# EAGLE library part MOLEX_CONN_20 (library BMS Temp CAN Board)
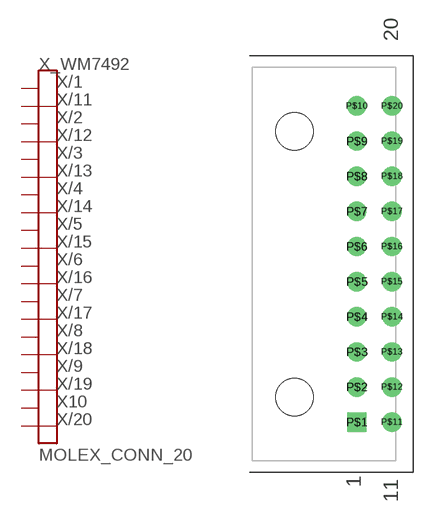
[diagram p0: symbol with the pads of WM7492; footprint WM7492]

Designator prefix X; gates _WM7492=WM7492 /1=CONN_PIN_SHORT /2=CONN_PIN_SHORT /3=CONN_PIN_SHORT /4=CONN_PIN_SHORT /5=CONN_PIN_SHORT /6=CONN_PIN_SHORT /7=CONN_PIN_SHORT /8=CONN_PIN_SHORT /9=CONN_PIN_SHORT 10=CONN_PIN_SHORT /11=CONN_PIN_LONG /12=CONN_PIN_LONG /13=CONN_PIN_LONG /14=CONN_PIN_LONG /15=CONN_PIN_LONG /16=CONN_PIN_LONG /17=CONN_PIN_LONG /18=CONN_PIN_LONG /19=CONN_PIN_LONG /20=CONN_PIN_LONG

## MOLEX_CONN_20  [WM7492]
P$1  /1:P$1  pas
P$2  /2:P$1  pas
P$3  /3:P$1  pas
P$4  /4:P$1  pas
P$5  /5:P$1  pas
P$6  /6:P$1  pas
P$7  /7:P$1  pas
P$8  /8:P$1  pas
P$9  /9:P$1  pas
P$10  10:P$1  pas
P$11  /11:P$1  pas
P$12  /12:P$1  pas
P$13  /13:P$1  pas
P$14  /14:P$1  pas
P$15  /15:P$1  pas
P$16  /16:P$1  pas
P$17  /17:P$1  pas
P$18  /18:P$1  pas
P$19  /19:P$1  pas
P$20  /20:P$1  pas

## Footprint WM7492 (pad centres in mm)
drill 1.1 square: P$1 2.8,-13.5
drill 1.1: P$2 2.8,-10.5; P$3 2.8,-7.5; P$4 2.8,-4.5; P$5 2.8,-1.5; P$6 2.8,1.5; P$7 2.8,4.5; P$8 2.8,7.5; P$9 2.8,10.5; P$10 2.8,13.5; P$11 5.8,-13.5; P$12 5.8,-10.5; P$13 5.8,-7.5; P$14 5.8,-4.5; P$15 5.8,-1.5; P$16 5.8,1.5; P$17 5.8,4.5; P$18 5.8,7.5; P$19 5.8,10.5; P$20 5.8,13.5
hole 3.2 at -2.52,11.35
hole 3.2 at -2.52,-11.35